# Altium footprint library Package_CSP.PcbLib: 178 footprints (part 2 of 12)
Each footprint in its own frame and in the unit in brackets; x right, y up, seen from the top. Pads: shape width x height; smd on the part's side, far side on the other; paste and mask are expansions set on the pad; w line width, h text height; cw(c..) or ccw(c..) is an arc to the next point about the centre after c.
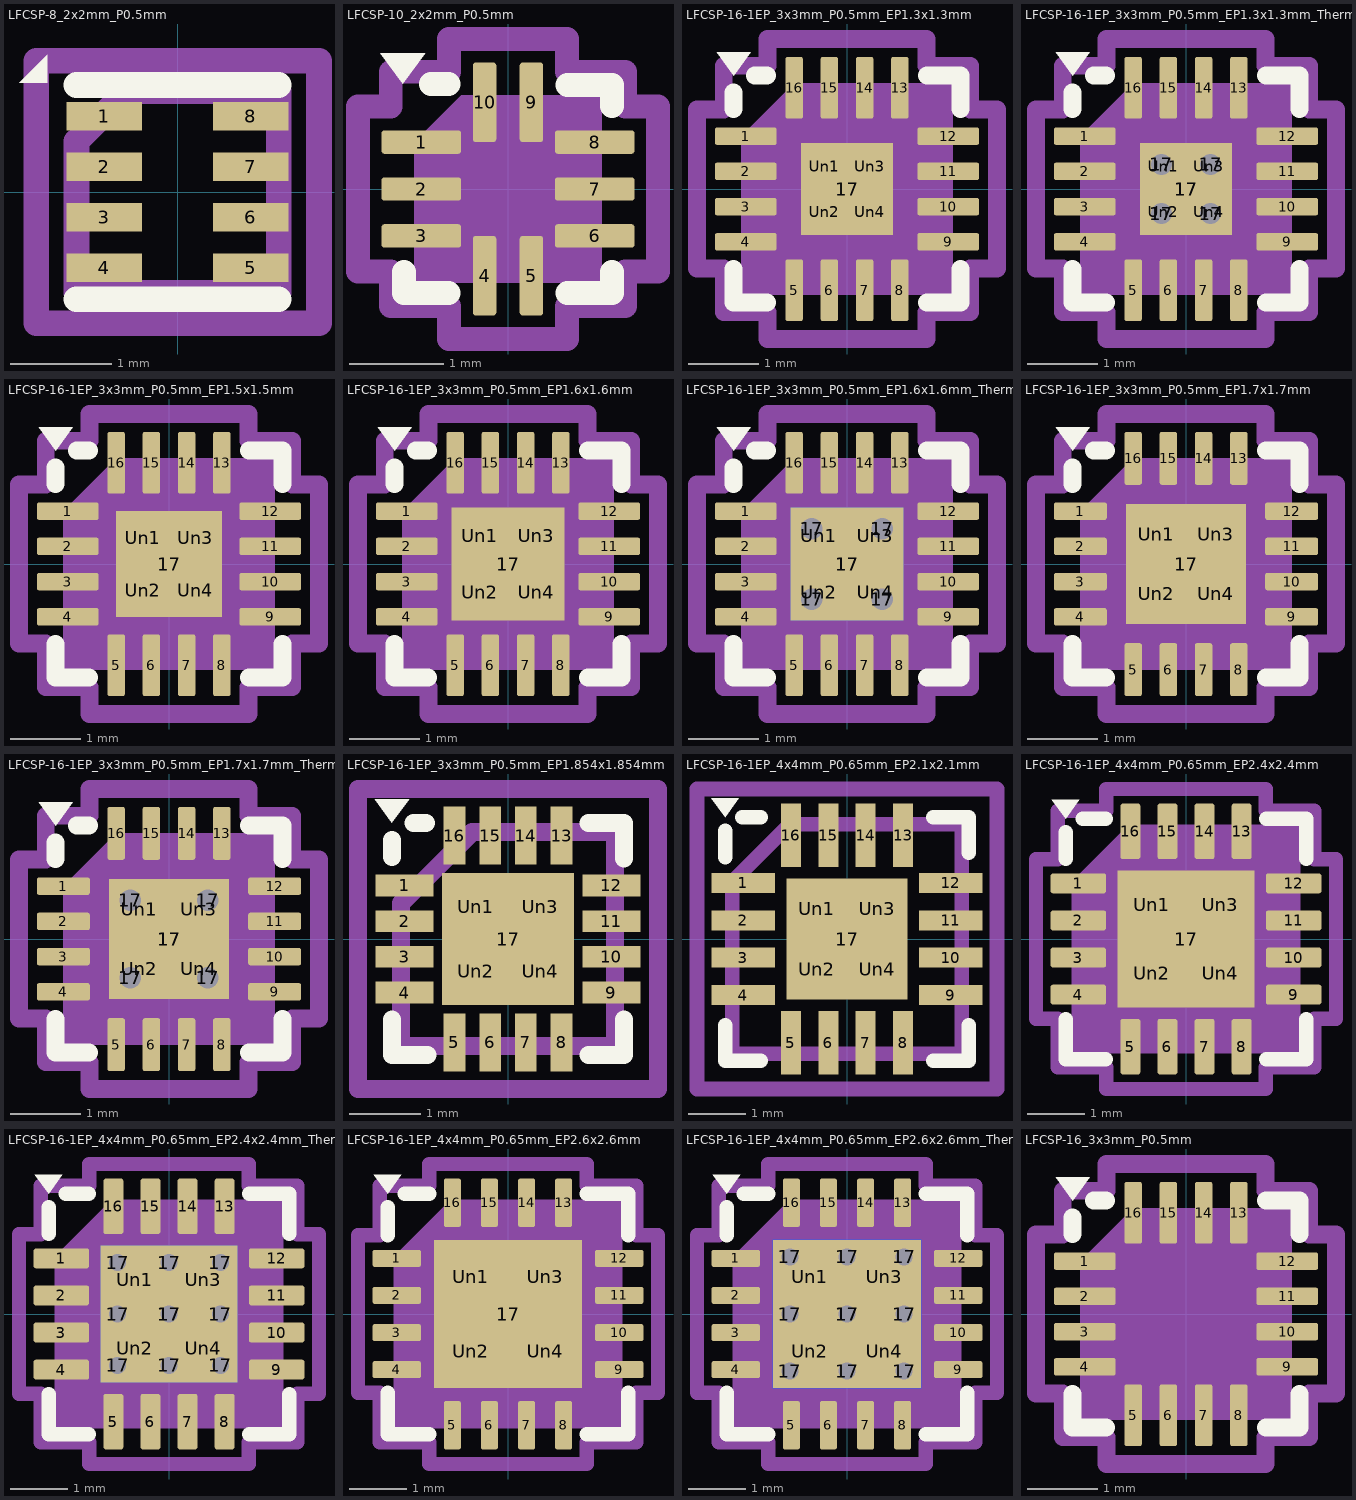
[diagram p1: the footprints below, top view; thin cyan lines are the x and y axes]

## LFCSP-8_2x2mm_P0.5mm [mm]
pads (8):
  rect 0.75x0.28 smd: 1(-0.725,0.75) 2(-0.725,0.25) 3(-0.725,-0.25) 4(-0.725,-0.75) 5(0.725,-0.75) 6(0.725,-0.25) 7(0.725,0.25) 8(0.725,0.75)
F.SilkS:
  region: -1.29,1.08 -1.57,1.08 -1.29,1.36
  lines w0.254: -1,-1.06 1,-1.06 ; -1,1.06 1,1.06
Top Assembly:
  lines w0.254: -1,-1 1,-1 1,1 -0.5,1 -1,0.5 -1,-1
  text "'.Designator'" at -4.047,-0.84 h1
Top Courtyard:
  lines w0.254: -1.4,-1.3 1.4,-1.3 1.4,1.3 -1.4,1.3 -1.4,-1.3
Top Designator:
  text ".Designator" at -7.768,-0.508 h1.52

## LFCSP-10_2x2mm_P0.5mm [mm]
pads (10):
  rrect25% 0.85x0.25 smd: 1(-0.925,0.5) 2(-0.925,0) 3(-0.925,-0.5) 6(0.925,-0.5) 7(0.925,0) 8(0.925,0.5)
  rrect25% 0.25x0.85 smd: 4(-0.25,-0.925) 5(0.25,-0.925) 9(0.25,0.925) 10(-0.25,0.925)
F.SilkS:
  region: -1.12,1.12 -1.36,1.45 -0.88,1.45
  lines w0.254: -1.11,-0.885 -1.11,-1.11 -0.635,-1.11 ; -0.82,1.12 -0.635,1.12 ; 0.635,-1.11 1.11,-1.11 1.11,-0.885 ; 0.635,1.11 1.11,1.11 1.11,0.885
Top Assembly:
  region: 1,-1 -1,-1 -1,0.5 -0.5,1 1,1
  text "'.Designator'" at -2.028,-0.425 h0.5
Top Courtyard:
  lines w0.254: -1.6,-0.88 -1.25,-0.88 -1.25,-1.25 -0.63,-1.25 -0.63,-1.6 0.63,-1.6 0.63,-1.25 1.25,-1.25 1.25,-0.88 1.6,-0.88 1.6,0.88 1.25,0.88 1.25,1.25 0.63,1.25 0.63,1.6 -0.63,1.6 -0.63,1.25 -1.25,1.25 -1.25,0.88 -1.6,0.88 -1.6,-0.88
Top Designator:
  text ".Designator" at -7.698,-0.508 h1.52

## LFCSP-16-1EP_3x3mm_P0.5mm_EP1.3x1.3mm [mm]
pads (21):
  rrect25% 0.875x0.25 smd: 1(-1.438,0.75) 2(-1.438,0.25) 3(-1.438,-0.25) 4(-1.438,-0.75) 9(1.438,-0.75) 10(1.438,-0.25) 11(1.438,0.25) 12(1.438,0.75)
  rrect25% 0.25x0.875 smd: 5(-0.75,-1.438) 6(-0.25,-1.438) 7(0.25,-1.438) 8(0.75,-1.438) 13(0.75,1.438) 14(0.25,1.438) 15(-0.25,1.438) 16(-0.75,1.438)
  rect 1.3x1.3 smd: 17(0,0)
  rrect25% 0.52x0.52 on Top Paste: Un1(-0.325,0.325) Un2(-0.325,-0.325) Un3(0.325,0.325) Un4(0.325,-0.325)
F.SilkS:
  region: -1.61,1.61 -1.85,1.94 -1.37,1.94
  lines w0.254: -1.61,-1.135 -1.61,-1.61 -1.135,-1.61 ; -1.61,1.135 -1.61,1.37 ; -1.31,1.61 -1.135,1.61 ; 1.135,-1.61 1.61,-1.61 1.61,-1.135 ; 1.135,1.61 1.61,1.61 1.61,1.135
Top Assembly:
  region: 1.5,-1.5 -1.5,-1.5 -1.5,0.75 -0.75,1.5 1.5,1.5
  text "'.Designator'" at -3.033,-0.628 h0.75
Top Courtyard:
  lines w0.254: -2.13,-1.13 -1.75,-1.13 -1.75,-1.75 -1.13,-1.75 -1.13,-2.13 1.13,-2.13 1.13,-1.75 1.75,-1.75 1.75,-1.13 2.13,-1.13 2.13,1.13 1.75,1.13 1.75,1.75 1.13,1.75 1.13,2.13 -1.13,2.13 -1.13,1.75 -1.75,1.75 -1.75,1.13 -2.13,1.13 -2.13,-1.13
Top Designator:
  text ".Designator" at -7.728,-0.508 h1.52

## LFCSP-16-1EP_3x3mm_P0.5mm_EP1.3x1.3mm_ThermalVias [mm]
pads (26):
  rrect25% 0.875x0.25 smd: 1(-1.438,0.75) 2(-1.438,0.25) 3(-1.438,-0.25) 4(-1.438,-0.75) 9(1.438,-0.75) 10(1.438,-0.25) 11(1.438,0.25) 12(1.438,0.75)
  rrect25% 0.25x0.875 smd: 5(-0.75,-1.438) 6(-0.25,-1.438) 7(0.25,-1.438) 8(0.75,-1.438) 13(0.75,1.438) 14(0.25,1.438) 15(-0.25,1.438) 16(-0.75,1.438)
  round 0.6 hole 0.3: 17(-0.35,-0.35) 17(-0.35,0.35) 17(0.35,-0.35) 17(0.35,0.35)
  rect 1.3x1.3 smd: 17(0,0)
  rect 1.3x1.3 smd far side: 17(0,0)
  rrect25% 0.52x0.52 on Top Paste: Un1(-0.325,0.325) Un2(-0.325,-0.325) Un3(0.325,0.325) Un4(0.325,-0.325)
F.SilkS:
  region: -1.61,1.61 -1.85,1.94 -1.37,1.94
  lines w0.254: -1.61,-1.135 -1.61,-1.61 -1.135,-1.61 ; -1.61,1.135 -1.61,1.37 ; -1.31,1.61 -1.135,1.61 ; 1.135,-1.61 1.61,-1.61 1.61,-1.135 ; 1.135,1.61 1.61,1.61 1.61,1.135
Top Assembly:
  region: 1.5,-1.5 -1.5,-1.5 -1.5,0.75 -0.75,1.5 1.5,1.5
  text "'.Designator'" at -3.033,-0.628 h0.75
Top Courtyard:
  lines w0.254: -2.13,-1.13 -1.75,-1.13 -1.75,-1.75 -1.13,-1.75 -1.13,-2.13 1.13,-2.13 1.13,-1.75 1.75,-1.75 1.75,-1.13 2.13,-1.13 2.13,1.13 1.75,1.13 1.75,1.75 1.13,1.75 1.13,2.13 -1.13,2.13 -1.13,1.75 -1.75,1.75 -1.75,1.13 -2.13,1.13 -2.13,-1.13
Top Designator:
  text ".Designator" at -7.728,-0.508 h1.52

## LFCSP-16-1EP_3x3mm_P0.5mm_EP1.5x1.5mm [mm]
pads (21):
  rrect25% 0.875x0.25 smd: 1(-1.438,0.75) 2(-1.438,0.25) 3(-1.438,-0.25) 4(-1.438,-0.75) 9(1.438,-0.75) 10(1.438,-0.25) 11(1.438,0.25) 12(1.438,0.75)
  rrect25% 0.25x0.875 smd: 5(-0.75,-1.438) 6(-0.25,-1.438) 7(0.25,-1.438) 8(0.75,-1.438) 13(0.75,1.438) 14(0.25,1.438) 15(-0.25,1.438) 16(-0.75,1.438)
  rect 1.5x1.5 smd: 17(0,0)
  rrect25% 0.6x0.6 on Top Paste: Un1(-0.375,0.375) Un2(-0.375,-0.375) Un3(0.375,0.375) Un4(0.375,-0.375)
F.SilkS:
  region: -1.61,1.61 -1.85,1.94 -1.37,1.94
  lines w0.254: -1.61,-1.135 -1.61,-1.61 -1.135,-1.61 ; -1.61,1.135 -1.61,1.37 ; -1.31,1.61 -1.135,1.61 ; 1.135,-1.61 1.61,-1.61 1.61,-1.135 ; 1.135,1.61 1.61,1.61 1.61,1.135
Top Assembly:
  region: 1.5,-1.5 -1.5,-1.5 -1.5,0.75 -0.75,1.5 1.5,1.5
  text "'.Designator'" at -3.033,-0.628 h0.75
Top Courtyard:
  lines w0.254: -2.13,-1.13 -1.75,-1.13 -1.75,-1.75 -1.13,-1.75 -1.13,-2.13 1.13,-2.13 1.13,-1.75 1.75,-1.75 1.75,-1.13 2.13,-1.13 2.13,1.13 1.75,1.13 1.75,1.75 1.13,1.75 1.13,2.13 -1.13,2.13 -1.13,1.75 -1.75,1.75 -1.75,1.13 -2.13,1.13 -2.13,-1.13
Top Designator:
  text ".Designator" at -7.728,-0.508 h1.52

## LFCSP-16-1EP_3x3mm_P0.5mm_EP1.6x1.6mm [mm]
pads (21):
  rrect25% 0.875x0.25 smd: 1(-1.438,0.75) 2(-1.438,0.25) 3(-1.438,-0.25) 4(-1.438,-0.75) 9(1.438,-0.75) 10(1.438,-0.25) 11(1.438,0.25) 12(1.438,0.75)
  rrect25% 0.25x0.875 smd: 5(-0.75,-1.438) 6(-0.25,-1.438) 7(0.25,-1.438) 8(0.75,-1.438) 13(0.75,1.438) 14(0.25,1.438) 15(-0.25,1.438) 16(-0.75,1.438)
  rect 1.6x1.6 smd: 17(0,0)
  rrect25% 0.64x0.64 on Top Paste: Un1(-0.4,0.4) Un2(-0.4,-0.4) Un3(0.4,0.4) Un4(0.4,-0.4)
F.SilkS:
  region: -1.61,1.61 -1.85,1.94 -1.37,1.94
  lines w0.254: -1.61,-1.135 -1.61,-1.61 -1.135,-1.61 ; -1.61,1.135 -1.61,1.37 ; -1.31,1.61 -1.135,1.61 ; 1.135,-1.61 1.61,-1.61 1.61,-1.135 ; 1.135,1.61 1.61,1.61 1.61,1.135
Top Assembly:
  region: 1.5,-1.5 -1.5,-1.5 -1.5,0.75 -0.75,1.5 1.5,1.5
  text "'.Designator'" at -3.033,-0.628 h0.75
Top Courtyard:
  lines w0.254: -2.13,-1.13 -1.75,-1.13 -1.75,-1.75 -1.13,-1.75 -1.13,-2.13 1.13,-2.13 1.13,-1.75 1.75,-1.75 1.75,-1.13 2.13,-1.13 2.13,1.13 1.75,1.13 1.75,1.75 1.13,1.75 1.13,2.13 -1.13,2.13 -1.13,1.75 -1.75,1.75 -1.75,1.13 -2.13,1.13 -2.13,-1.13
Top Designator:
  text ".Designator" at -7.728,-0.508 h1.52

## LFCSP-16-1EP_3x3mm_P0.5mm_EP1.6x1.6mm_ThermalVias [mm]
pads (26):
  rrect25% 0.875x0.25 smd: 1(-1.438,0.75) 2(-1.438,0.25) 3(-1.438,-0.25) 4(-1.438,-0.75) 9(1.438,-0.75) 10(1.438,-0.25) 11(1.438,0.25) 12(1.438,0.75)
  rrect25% 0.25x0.875 smd: 5(-0.75,-1.438) 6(-0.25,-1.438) 7(0.25,-1.438) 8(0.75,-1.438) 13(0.75,1.438) 14(0.25,1.438) 15(-0.25,1.438) 16(-0.75,1.438)
  round 0.6 hole 0.3: 17(-0.5,-0.5) 17(-0.5,0.5) 17(0.5,-0.5) 17(0.5,0.5)
  rect 1.6x1.6 smd: 17(0,0)
  rect 1.6x1.6 smd far side: 17(0,0)
  rrect25% 0.69x0.69 on Top Paste: Un1(-0.4,0.4) Un2(-0.4,-0.4) Un3(0.4,0.4) Un4(0.4,-0.4)
F.SilkS:
  region: -1.61,1.61 -1.85,1.94 -1.37,1.94
  lines w0.254: -1.61,-1.135 -1.61,-1.61 -1.135,-1.61 ; -1.61,1.135 -1.61,1.37 ; -1.31,1.61 -1.135,1.61 ; 1.135,-1.61 1.61,-1.61 1.61,-1.135 ; 1.135,1.61 1.61,1.61 1.61,1.135
Top Assembly:
  region: 1.5,-1.5 -1.5,-1.5 -1.5,0.75 -0.75,1.5 1.5,1.5
  text "'.Designator'" at -3.033,-0.628 h0.75
Top Courtyard:
  lines w0.254: -2.13,-1.13 -1.75,-1.13 -1.75,-1.75 -1.13,-1.75 -1.13,-2.13 1.13,-2.13 1.13,-1.75 1.75,-1.75 1.75,-1.13 2.13,-1.13 2.13,1.13 1.75,1.13 1.75,1.75 1.13,1.75 1.13,2.13 -1.13,2.13 -1.13,1.75 -1.75,1.75 -1.75,1.13 -2.13,1.13 -2.13,-1.13
Top Designator:
  text ".Designator" at -7.728,-0.508 h1.52

## LFCSP-16-1EP_3x3mm_P0.5mm_EP1.7x1.7mm [mm]
pads (21):
  rrect25% 0.75x0.25 smd: 1(-1.5,0.75) 2(-1.5,0.25) 3(-1.5,-0.25) 4(-1.5,-0.75) 9(1.5,-0.75) 10(1.5,-0.25) 11(1.5,0.25) 12(1.5,0.75)
  rrect25% 0.25x0.75 smd: 5(-0.75,-1.5) 6(-0.25,-1.5) 7(0.25,-1.5) 8(0.75,-1.5) 13(0.75,1.5) 14(0.25,1.5) 15(-0.25,1.5) 16(-0.75,1.5)
  rect 1.7x1.7 smd: 17(0,0)
  rrect25% 0.69x0.69 on Top Paste: Un1(-0.425,0.425) Un2(-0.425,-0.425) Un3(0.425,0.425) Un4(0.425,-0.425)
F.SilkS:
  region: -1.61,1.61 -1.85,1.94 -1.37,1.94
  lines w0.254: -1.61,-1.135 -1.61,-1.61 -1.135,-1.61 ; -1.61,1.135 -1.61,1.37 ; -1.31,1.61 -1.135,1.61 ; 1.135,-1.61 1.61,-1.61 1.61,-1.135 ; 1.135,1.61 1.61,1.61 1.61,1.135
Top Assembly:
  region: 1.5,-1.5 -1.5,-1.5 -1.5,0.75 -0.75,1.5 1.5,1.5
  text "'.Designator'" at -3.033,-0.628 h0.75
Top Courtyard:
  lines w0.254: -2.13,-1.13 -1.75,-1.13 -1.75,-1.75 -1.13,-1.75 -1.13,-2.13 1.13,-2.13 1.13,-1.75 1.75,-1.75 1.75,-1.13 2.13,-1.13 2.13,1.13 1.75,1.13 1.75,1.75 1.13,1.75 1.13,2.13 -1.13,2.13 -1.13,1.75 -1.75,1.75 -1.75,1.13 -2.13,1.13 -2.13,-1.13
Top Designator:
  text ".Designator" at -7.728,-0.508 h1.52

## LFCSP-16-1EP_3x3mm_P0.5mm_EP1.7x1.7mm_ThermalVias [mm]
pads (26):
  rrect25% 0.75x0.25 smd: 1(-1.5,0.75) 2(-1.5,0.25) 3(-1.5,-0.25) 4(-1.5,-0.75) 9(1.5,-0.75) 10(1.5,-0.25) 11(1.5,0.25) 12(1.5,0.75)
  rrect25% 0.25x0.75 smd: 5(-0.75,-1.5) 6(-0.25,-1.5) 7(0.25,-1.5) 8(0.75,-1.5) 13(0.75,1.5) 14(0.25,1.5) 15(-0.25,1.5) 16(-0.75,1.5)
  round 0.6 hole 0.3: 17(-0.55,-0.55) 17(-0.55,0.55) 17(0.55,-0.55) 17(0.55,0.55)
  rect 1.7x1.7 smd: 17(0,0)
  rect 1.7x1.7 smd far side: 17(0,0)
  rrect25% 0.74x0.74 on Top Paste: Un1(-0.425,0.425) Un2(-0.425,-0.425) Un3(0.425,0.425) Un4(0.425,-0.425)
F.SilkS:
  region: -1.61,1.61 -1.85,1.94 -1.37,1.94
  lines w0.254: -1.61,-1.135 -1.61,-1.61 -1.135,-1.61 ; -1.61,1.135 -1.61,1.37 ; -1.31,1.61 -1.135,1.61 ; 1.135,-1.61 1.61,-1.61 1.61,-1.135 ; 1.135,1.61 1.61,1.61 1.61,1.135
Top Assembly:
  region: 1.5,-1.5 -1.5,-1.5 -1.5,0.75 -0.75,1.5 1.5,1.5
  text "'.Designator'" at -3.033,-0.628 h0.75
Top Courtyard:
  lines w0.254: -2.13,-1.13 -1.75,-1.13 -1.75,-1.75 -1.13,-1.75 -1.13,-2.13 1.13,-2.13 1.13,-1.75 1.75,-1.75 1.75,-1.13 2.13,-1.13 2.13,1.13 1.75,1.13 1.75,1.75 1.13,1.75 1.13,2.13 -1.13,2.13 -1.13,1.75 -1.75,1.75 -1.75,1.13 -2.13,1.13 -2.13,-1.13
Top Designator:
  text ".Designator" at -7.728,-0.508 h1.52

## LFCSP-16-1EP_3x3mm_P0.5mm_EP1.854x1.854mm [mm]
pads (21):
  rect 0.813x0.305 smd: 1(-1.448,0.75) 2(-1.448,0.25) 3(-1.448,-0.25) 4(-1.448,-0.75) 9(1.448,-0.75) 10(1.448,-0.25) 11(1.448,0.25) 12(1.448,0.75)
  rect 0.305x0.813 smd: 5(-0.75,-1.448) 6(-0.25,-1.448) 7(0.25,-1.448) 8(0.75,-1.448) 13(0.75,1.448) 14(0.25,1.448) 15(-0.25,1.448) 16(-0.75,1.448)
  rect 1.854x1.854 smd: 17(0,0)
  rect 0.7x0.7 on Top Paste: Un1(-0.45,0.45) Un2(-0.45,-0.45) Un3(0.45,0.45) Un4(0.45,-0.45)
F.SilkS:
  region: -1.625,1.625 -1.865,1.955 -1.385,1.955
  lines w0.254: -1.625,-1.125 -1.625,-1.625 -1.125,-1.625 ; -1.625,1.15 -1.625,1.385 ; -1.325,1.625 -1.15,1.625 ; 1.125,-1.625 1.625,-1.625 1.625,-1.125 ; 1.125,1.625 1.625,1.625 1.625,1.125
Top Assembly:
  lines w0.254: -1.5,-1.5 1.5,-1.5 1.5,1.5 -0.5,1.5 -1.5,0.5 -1.5,-1.5
  text "'.Designator'" at -2.878,-0.633 h0.7
Top Courtyard:
  lines w0.254: -2.1,-2.1 2.1,-2.1 2.1,2.1 -2.1,2.1 -2.1,-2.1
Top Designator:
  text ".Designator" at -7.768,-0.508 h1.52

## LFCSP-16-1EP_4x4mm_P0.65mm_EP2.1x2.1mm [mm]
pads (21):
  rect 1.105x0.35 smd: 1(-1.803,0.975) 2(-1.803,0.325) 3(-1.803,-0.325) 4(-1.803,-0.975) 9(1.803,-0.975) 10(1.803,-0.325) 11(1.803,0.325) 12(1.803,0.975)
  rect 0.35x1.105 smd: 5(-0.975,-1.803) 6(-0.325,-1.803) 7(0.325,-1.803) 8(0.975,-1.803) 13(0.975,1.803) 14(0.325,1.803) 15(-0.325,1.803) 16(-0.975,1.803)
  rect 2.1x2.1 smd: 17(0,0)
  rect 0.9x0.9 on Top Paste: Un1(-0.525,0.525) Un2(-0.525,-0.525) Un3(0.525,0.525) Un4(0.525,-0.525)
F.SilkS:
  region: -2.12,2.12 -2.36,2.45 -1.88,2.45
  lines w0.254: -2.12,-1.5 -2.12,-2.12 -1.5,-2.12 ; -2.12,1.42 -2.12,1.88 ; -1.82,2.12 -1.5,2.12 ; 1.5,-2.12 2.12,-2.12 2.12,-1.5 ; 1.5,2.12 2.12,2.12 2.12,1.5
Top Assembly:
  lines w0.254: -2,-2 2,-2 2,2 -1,2 -2,1 -2,-2
  text "'.Designator'" at -4.047,-0.84 h1
Top Courtyard:
  lines w0.254: -2.61,-2.61 2.61,-2.61 2.61,2.61 -2.61,2.61 -2.61,-2.61
Top Designator:
  text ".Designator" at -7.768,-0.508 h1.52

## LFCSP-16-1EP_4x4mm_P0.65mm_EP2.4x2.4mm [mm]
pads (21):
  rrect25% 0.975x0.35 smd: 1(-1.887,0.975) 2(-1.887,0.325) 3(-1.887,-0.325) 4(-1.887,-0.975) 9(1.887,-0.975) 10(1.887,-0.325) 11(1.887,0.325) 12(1.887,0.975)
  rrect25% 0.35x0.975 smd: 5(-0.975,-1.887) 6(-0.325,-1.887) 7(0.325,-1.887) 8(0.975,-1.887) 13(0.975,1.887) 14(0.325,1.887) 15(-0.325,1.887) 16(-0.975,1.887)
  rect 2.4x2.4 smd: 17(0,0)
  rrect25% 0.97x0.97 on Top Paste: Un1(-0.6,0.6) Un2(-0.6,-0.6) Un3(0.6,0.6) Un4(0.6,-0.6)
F.SilkS:
  region: -2.11,2.11 -2.35,2.44 -1.87,2.44
  lines w0.254: -2.11,-1.41 -2.11,-2.11 -1.41,-2.11 ; -2.11,1.41 -2.11,1.87 ; -1.81,2.11 -1.41,2.11 ; 1.41,-2.11 2.11,-2.11 2.11,-1.41 ; 1.41,2.11 2.11,2.11 2.11,1.41
Top Assembly:
  region: 2,-2 -2,-2 -2,1 -1,2 2,2
  text "'.Designator'" at -4.047,-0.84 h1
Top Courtyard:
  lines w0.254: -2.63,-1.4 -2.25,-1.4 -2.25,-2.25 -1.4,-2.25 -1.4,-2.63 1.4,-2.63 1.4,-2.25 2.25,-2.25 2.25,-1.4 2.63,-1.4 2.63,1.4 2.25,1.4 2.25,2.25 1.4,2.25 1.4,2.63 -1.4,2.63 -1.4,2.25 -2.25,2.25 -2.25,1.4 -2.63,1.4 -2.63,-1.4
Top Designator:
  text ".Designator" at -7.768,-0.508 h1.52

## LFCSP-16-1EP_4x4mm_P0.65mm_EP2.4x2.4mm_ThermalVias [mm]
pads (31):
  rrect25% 0.975x0.35 smd: 1(-1.887,0.975) 2(-1.887,0.325) 3(-1.887,-0.325) 4(-1.887,-0.975) 9(1.887,-0.975) 10(1.887,-0.325) 11(1.887,0.325) 12(1.887,0.975)
  rrect25% 0.35x0.975 smd: 5(-0.975,-1.887) 6(-0.325,-1.887) 7(0.325,-1.887) 8(0.975,-1.887) 13(0.975,1.887) 14(0.325,1.887) 15(-0.325,1.887) 16(-0.975,1.887)
  round 0.6 hole 0.3: 17(-0.9,-0.9) 17(-0.9,0) 17(-0.9,0.9) 17(0,-0.9) 17(0,0) 17(0,0.9) 17(0.9,-0.9) 17(0.9,0) 17(0.9,0.9)
  rect 2.4x2.4 smd: 17(0,0)
  rect 2.4x2.4 smd far side: 17(0,0)
  rrect24% 1.04x1.04 on Top Paste: Un1(-0.6,0.6) Un2(-0.6,-0.6) Un3(0.6,0.6) Un4(0.6,-0.6)
F.SilkS:
  region: -2.11,2.11 -2.35,2.44 -1.87,2.44
  lines w0.254: -2.11,-1.41 -2.11,-2.11 -1.41,-2.11 ; -2.11,1.41 -2.11,1.87 ; -1.81,2.11 -1.41,2.11 ; 1.41,-2.11 2.11,-2.11 2.11,-1.41 ; 1.41,2.11 2.11,2.11 2.11,1.41
Top Assembly:
  region: 2,-2 -2,-2 -2,1 -1,2 2,2
  text "'.Designator'" at -4.047,-0.84 h1
Top Courtyard:
  lines w0.254: -2.63,-1.4 -2.25,-1.4 -2.25,-2.25 -1.4,-2.25 -1.4,-2.63 1.4,-2.63 1.4,-2.25 2.25,-2.25 2.25,-1.4 2.63,-1.4 2.63,1.4 2.25,1.4 2.25,2.25 1.4,2.25 1.4,2.63 -1.4,2.63 -1.4,2.25 -2.25,2.25 -2.25,1.4 -2.63,1.4 -2.63,-1.4
Top Designator:
  text ".Designator" at -7.768,-0.508 h1.52

## LFCSP-16-1EP_4x4mm_P0.65mm_EP2.6x2.6mm [mm]
pads (21):
  rrect25% 0.85x0.3 smd: 1(-1.95,0.975) 2(-1.95,0.325) 3(-1.95,-0.325) 4(-1.95,-0.975) 9(1.95,-0.975) 10(1.95,-0.325) 11(1.95,0.325) 12(1.95,0.975)
  rrect25% 0.3x0.85 smd: 5(-0.975,-1.95) 6(-0.325,-1.95) 7(0.325,-1.95) 8(0.975,-1.95) 13(0.975,1.95) 14(0.325,1.95) 15(-0.325,1.95) 16(-0.975,1.95)
  rect 2.6x2.6 smd: 17(0,0)
  rrect24% 1.05x1.05 on Top Paste: Un1(-0.65,0.65) Un2(-0.65,-0.65) Un3(0.65,0.65) Un4(0.65,-0.65)
F.SilkS:
  region: -2.11,2.11 -2.35,2.44 -1.87,2.44
  lines w0.254: -2.11,-1.385 -2.11,-2.11 -1.385,-2.11 ; -2.11,1.385 -2.11,1.87 ; -1.81,2.11 -1.385,2.11 ; 1.385,-2.11 2.11,-2.11 2.11,-1.385 ; 1.385,2.11 2.11,2.11 2.11,1.385
Top Assembly:
  region: 2,-2 -2,-2 -2,1 -1,2 2,2
  text "'.Designator'" at -4.047,-0.84 h1
Top Courtyard:
  lines w0.254: -2.63,-1.38 -2.25,-1.38 -2.25,-2.25 -1.38,-2.25 -1.38,-2.63 1.38,-2.63 1.38,-2.25 2.25,-2.25 2.25,-1.38 2.63,-1.38 2.63,1.38 2.25,1.38 2.25,2.25 1.38,2.25 1.38,2.63 -1.38,2.63 -1.38,2.25 -2.25,2.25 -2.25,1.38 -2.63,1.38 -2.63,-1.38
Top Designator:
  text ".Designator" at -7.768,-0.508 h1.52

## LFCSP-16-1EP_4x4mm_P0.65mm_EP2.6x2.6mm_ThermalVias [mm]
pads (31):
  rrect25% 0.85x0.3 smd: 1(-1.95,0.975) 2(-1.95,0.325) 3(-1.95,-0.325) 4(-1.95,-0.975) 9(1.95,-0.975) 10(1.95,-0.325) 11(1.95,0.325) 12(1.95,0.975)
  rrect25% 0.3x0.85 smd: 5(-0.975,-1.95) 6(-0.325,-1.95) 7(0.325,-1.95) 8(0.975,-1.95) 13(0.975,1.95) 14(0.325,1.95) 15(-0.325,1.95) 16(-0.975,1.95)
  round 0.6 hole 0.3: 17(-1,-1) 17(-1,0) 17(-1,1) 17(0,-1) 17(0,0) 17(0,1) 17(1,-1) 17(1,0) 17(1,1)
  rect 2.6x2.6 smd: 17(0,0)
  rect 2.6x2.6 smd far side: 17(0,0)
  rrect22% 1.13x1.13 on Top Paste: Un1(-0.65,0.65) Un2(-0.65,-0.65) Un3(0.65,0.65) Un4(0.65,-0.65)
F.SilkS:
  region: -2.11,2.11 -2.35,2.44 -1.87,2.44
  lines w0.254: -2.11,-1.385 -2.11,-2.11 -1.385,-2.11 ; -2.11,1.385 -2.11,1.87 ; -1.81,2.11 -1.385,2.11 ; 1.385,-2.11 2.11,-2.11 2.11,-1.385 ; 1.385,2.11 2.11,2.11 2.11,1.385
Top Assembly:
  region: 2,-2 -2,-2 -2,1 -1,2 2,2
  text "'.Designator'" at -4.047,-0.84 h1
Top Courtyard:
  lines w0.254: -2.63,-1.38 -2.25,-1.38 -2.25,-2.25 -1.38,-2.25 -1.38,-2.63 1.38,-2.63 1.38,-2.25 2.25,-2.25 2.25,-1.38 2.63,-1.38 2.63,1.38 2.25,1.38 2.25,2.25 1.38,2.25 1.38,2.63 -1.38,2.63 -1.38,2.25 -2.25,2.25 -2.25,1.38 -2.63,1.38 -2.63,-1.38
Top Designator:
  text ".Designator" at -7.768,-0.508 h1.52

## LFCSP-16_3x3mm_P0.5mm [mm]
pads (16):
  rrect25% 0.875x0.25 smd: 1(-1.438,0.75) 2(-1.438,0.25) 3(-1.438,-0.25) 4(-1.438,-0.75) 9(1.438,-0.75) 10(1.438,-0.25) 11(1.438,0.25) 12(1.438,0.75)
  rrect25% 0.25x0.875 smd: 5(-0.75,-1.438) 6(-0.25,-1.438) 7(0.25,-1.438) 8(0.75,-1.438) 13(0.75,1.438) 14(0.25,1.438) 15(-0.25,1.438) 16(-0.75,1.438)
F.SilkS:
  region: -1.61,1.61 -1.85,1.94 -1.37,1.94
  lines w0.254: -1.61,-1.135 -1.61,-1.61 -1.135,-1.61 ; -1.61,1.135 -1.61,1.37 ; -1.31,1.61 -1.135,1.61 ; 1.135,-1.61 1.61,-1.61 1.61,-1.135 ; 1.135,1.61 1.61,1.61 1.61,1.135
Top Assembly:
  region: 1.5,-1.5 -1.5,-1.5 -1.5,0.75 -0.75,1.5 1.5,1.5
  text "'.Designator'" at -3.033,-0.628 h0.75
Top Courtyard:
  lines w0.254: -2.13,-1.13 -1.75,-1.13 -1.75,-1.75 -1.13,-1.75 -1.13,-2.13 1.13,-2.13 1.13,-1.75 1.75,-1.75 1.75,-1.13 2.13,-1.13 2.13,1.13 1.75,1.13 1.75,1.75 1.13,1.75 1.13,2.13 -1.13,2.13 -1.13,1.75 -1.75,1.75 -1.75,1.13 -2.13,1.13 -2.13,-1.13
Top Designator:
  text ".Designator" at -7.728,-0.508 h1.52